# EAGLE library part SE2611T (library ncue_ee)
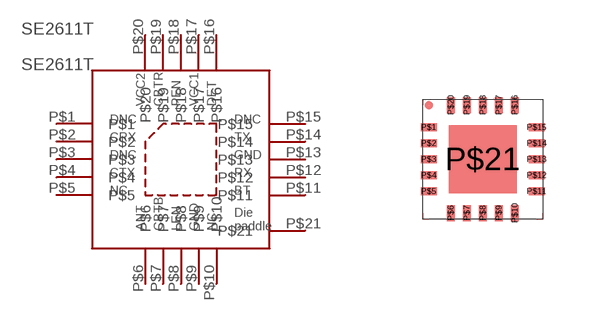
[diagram p0: symbol with the pads of 20-PIN-QFN(3X3)-0.4MM; footprint 20-PIN-QFN(3X3)-0.4MM]

Designator prefix SE2611T

## SE2611T  [20-PIN-QFN(3X3)-0.4MM]
P$1  P$1
P$2  P$2
P$3  P$3
P$4  P$4
P$5  P$5
P$6  P$6
P$7  P$7
P$8  P$8
P$9  P$9
P$10  P$10
P$11  P$11
P$12  P$12
P$13  P$13
P$14  P$14
P$15  P$15
P$16  P$16
P$17  P$17
P$18  P$18
P$19  P$19
P$20  P$20
P$21  P$21

## Footprint 20-PIN-QFN(3X3)-0.4MM (pad centres in mm)
smd 0.4 x 0.2: P$1 0.15,-0.7; P$2 0.15,-1.1; P$3 0.15,-1.5; P$4 0.15,-1.9; P$5 0.15,-2.3; P$11 2.85,-2.3; P$12 2.85,-1.9; P$13 2.85,-1.5; P$14 2.85,-1.1; P$15 2.85,-0.7
smd 0.2 x 0.4: P$6 0.7,-2.85; P$7 1.1,-2.85; P$8 1.5,-2.85; P$9 1.9,-2.85; P$10 2.3,-2.85; P$16 2.3,-0.15; P$17 1.9,-0.15; P$18 1.5,-0.15; P$19 1.1,-0.15; P$20 0.7,-0.15
smd 1.7 x 1.7: P$21 1.5,-1.5